# EAGLE library part EXBD (library Panasonic-EXB-ERJ)
Chip Resistor Networks
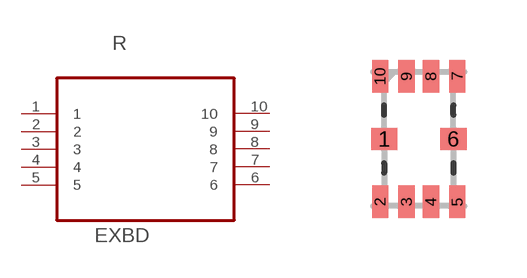
[diagram p7: symbol with the pads of RESCAV_EXBD-10N; footprint RESCAV_EXBD-10N]

Designator prefix R

## EXBD10C103J (MPN: EXBD10C103J; OC_FARNELL: 2283540; OC_NEWARK: 53W5034; PACKAGE: 1206; POWERRATING: 0.05 W/element; SUPPLIER: PANASONIC; TOLERANCE: ±5 %; VALUE: 10K), EXBD10C472J (MPN: EXBD10C472J; OC_FARNELL: 2283541; OC_NEWARK: 53W5035; PACKAGE: 1206; POWERRATING: 0.05 W/element; SUPPLIER: PANASONIC; TOLERANCE: ±5 %; VALUE: 4.7K)  [RESCAV_EXBD-10N]
1  1  pas
2  2  pas
3  3  pas
4  4  pas
5  5  pas
6  6  pas
7  7  pas
8  8  pas
9  9  pas
10  10  pas

## Footprint RESCAV_EXBD-10N (pad centres in mm)
smd 0.66 x 0.559: 1 -0.864,0; 6 0.864,0
smd 0.406 x 0.813: 2 -0.965,-1.575; 3 -0.305,-1.575; 4 0.305,-1.575; 5 0.965,-1.575; 7 0.965,1.575; 8 0.305,1.575; 9 -0.305,1.575; 10 -0.965,1.575